# Altium footprint library 2171800001.PcbLib: 1 footprints
Each footprint in its own frame and in the unit in brackets; x right, y up, seen from the top. Pads: shape width x height; smd on the part's side, far side on the other; paste and mask are expansions set on the pad; w line width, h text height; cw(c..) or ccw(c..) is an arc to the next point about the centre after c.
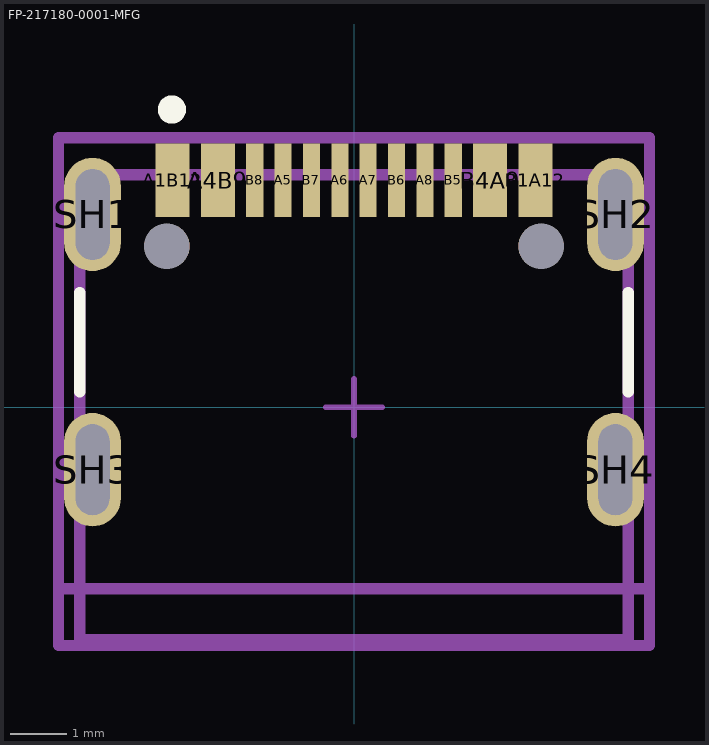
[diagram p0: the footprint, top view; thin cyan lines are the x and y axes]

## FP-217180-0001-MFG [mm]
pads (18):
  rect 0.6x1.3 smd paste+0 mask+0: A1B12(-3.2,4.005) A4B9(-2.4,4.005) B1A12(3.2,4.005) B4A9(2.4,4.005)
  rect 0.3x1.3 smd paste+0 mask+0: A5(-1.25,4.005) A6(-0.25,4.005) A7(0.25,4.005) A8(1.25,4.005) B5(1.75,4.005) B6(0.75,4.005) B7(-0.75,4.005) B8(-1.75,4.005)
  rrect100% 1x2 hole 0.6 slot 1.6 at 90 deg paste-1000 mask+0: SH1(-4.61,3.4) SH2(4.61,3.4) SH3(-4.61,-1.1) SH4(4.61,-1.1)
  round 0.8 hole 0.8 unplated paste-1000 mask+0: ""(-3.3,2.84) ""(3.3,2.84)
Top Overlay:
  circle w0.25: c-3.21,5.25 r0.125
  lines w0.2: -4.835,0.275 -4.835,2.025 ; 4.835,0.275 4.835,2.025
Top Assembly:
  lines w0.2: -5.21,-4.2 -5.21,4.755 5.21,4.755 5.21,-4.2 -5.21,-4.2
  text ".Designator" at 0,0.277 h1
Top 3D Body:
  lines w0.2: -5.21,-3.2 5.21,-3.2 ; -4.835,-4.1 -4.835,4.1 4.835,4.1 4.835,-4.1 -4.835,-4.1
Top Courtyard:
  lines w0.2: -5.21,-4.2 -5.21,4.755 5.21,4.755 5.21,-4.2 -5.21,-4.2
Top Component Center:
  lines w0.1: -0.5,0 0.5,0 ; 0,-0.5 0,0.5
3D body "Conn_Molex_217180-0001_eec.STEP": height 0.25, standoff 0, extent -5.21,-4.2 5.21,4.755